# Altium integrated library Silicon Labs Isolation and Power.IntLib: 421 symbols (part 10 of 19)
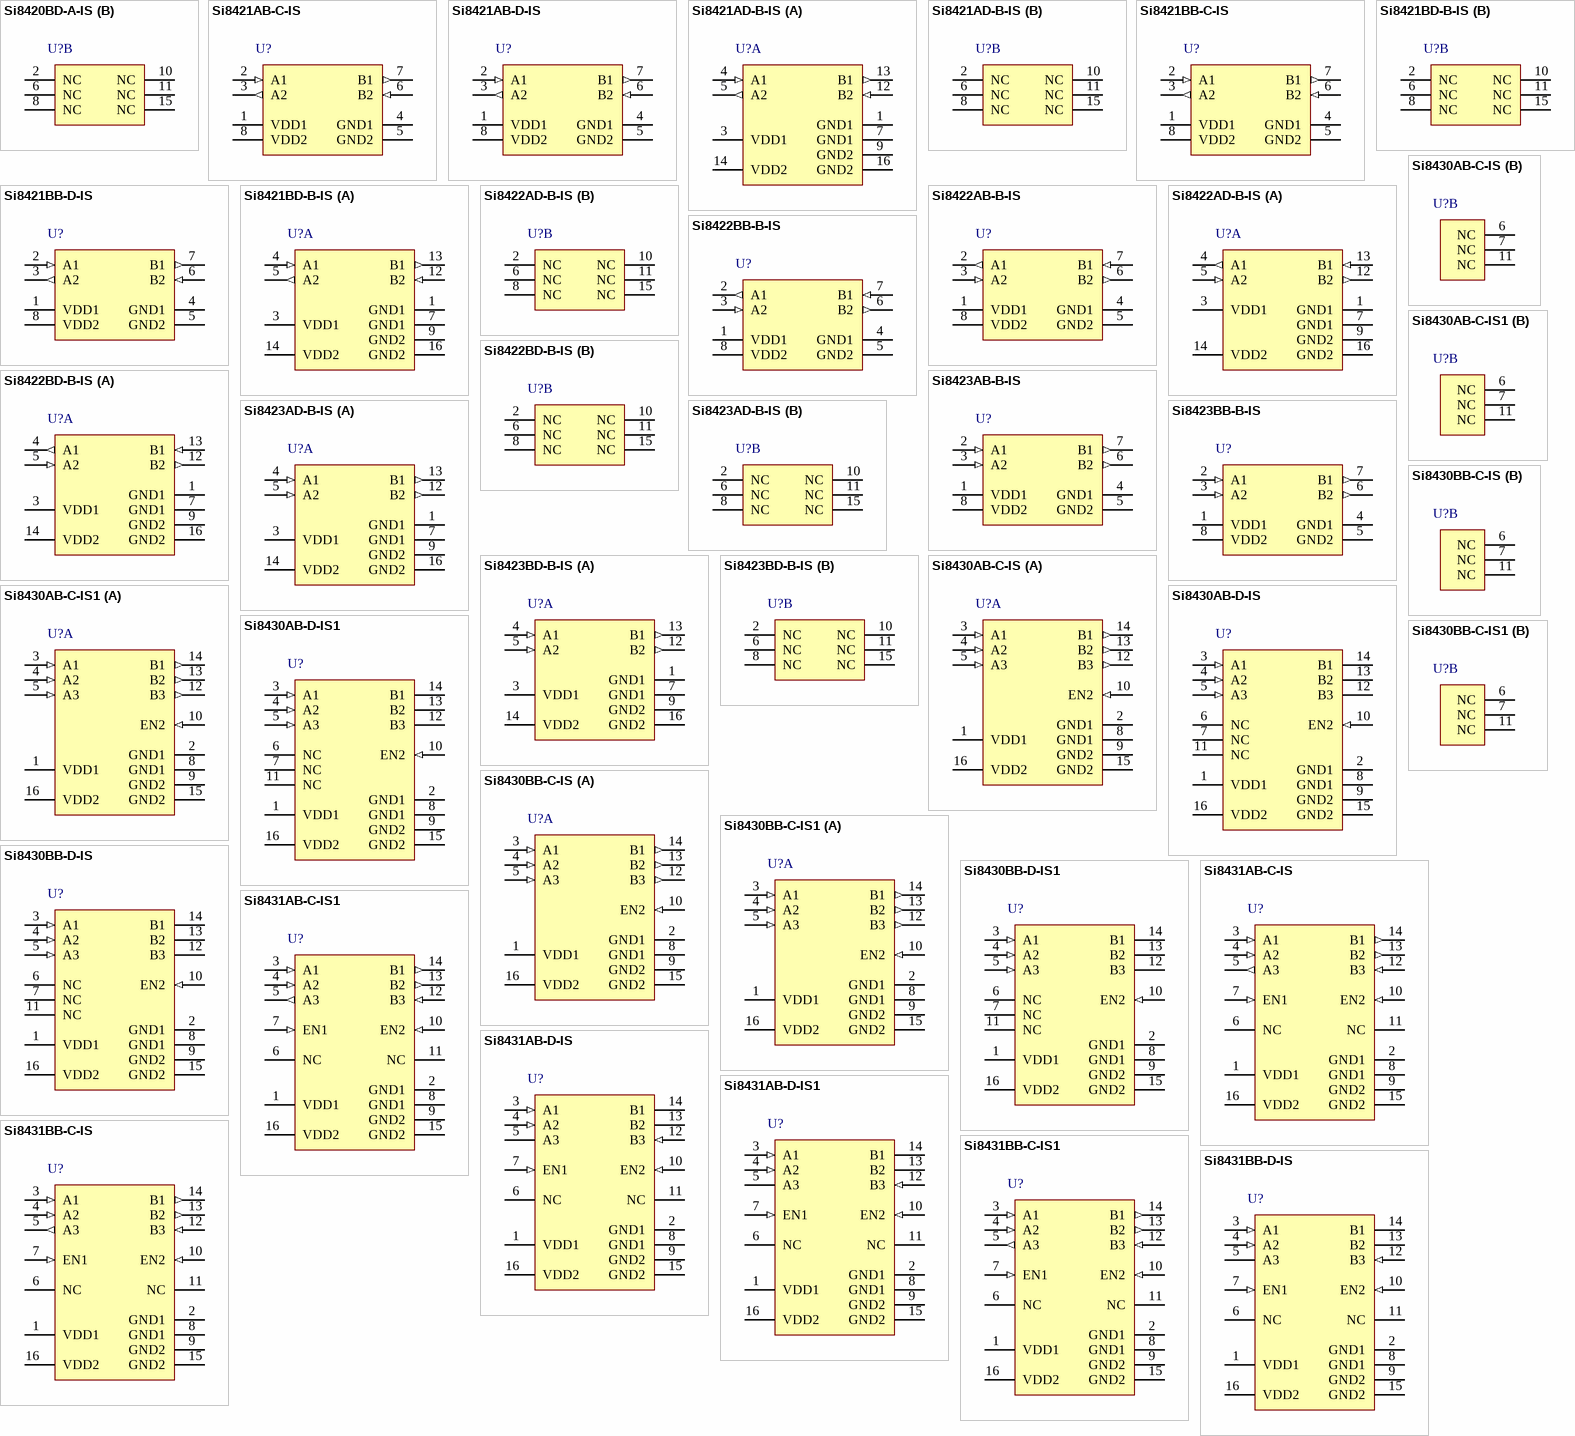
[diagram p23: symbols Si8420BD-A-IS to Si8431BB-D-IS]

## Si8431AB-D-IS1
designator U?
Low-Power Triple-Channel Digital Isolator, 1 Mbps, 2.5 kVRMS Isolation Rating, -40 to 125 degC, 16-pin SOIC; Manufacturer: Silicon Labs; PartNumber: Si8431AB-D-IS1; 10kV surge: FALSE; AEC-Q100: TRUE; Channel Type: Unidirectional; Isolation Rating (kV): 2.5; Maximum Data Rate (Mbps): 1; Maximum Propagation Delay (ns): 35; Sub-Family: Isolators; DatasheetVersion: Rev. 1.5; PackageReference: SOIC-16-NB; PackageDescription: 16-Pin Small-Outline Integrated Circuit, Body 9.9 x 3.9 mm, Pitch 1.27 mm; Supplier 1: Digi-Key; Supplier Part Number 1: SI8431AB-D-IS1-ND; Supplier 2: Mouser; Supplier Part Number 2: 634-SI8431AB-D-IS1; Enable Control: TRUE; Mounting Technology: Surface Mount; Code_JEDEC: MS-012; Code_IPC: J-STD-020; ComponentLink1Description: Manufacturer URL; ComponentLink1URL: http://www.silabs.com/; ComponentLink2Description: Datasheet; ComponentLink2URL: http://www.silabs.com/Support%20Documents/TechnicalDocs/Si843x.pdf; ComponentLink3Description: Package Specification; ComponentLink3URL: http://www.silabs.com/Support%20Documents/TechnicalDocs/si2401.pdf
footprint SLAB-SOIC-16-NB_N (SOIC, 16-Leads, Body 9.9x3.9mm, Pitch 1.27mm, IPC Medium Density)
footprint SLAB-SOIC-16-NB_L (SOIC, 16-Leads, Body 9.9x3.9mm, Pitch 1.27mm, IPC High Density)
footprint SLAB-SOIC-16-NB_M (SOIC, 16-Leads, Body 9.9x3.9mm, Pitch 1.27mm, IPC Low Density)
pins: 1 VDD1 (power) "Side 1 power supply.", 2 GND1 (power) "Side 1 ground.", 3 A1 (in) "Side 1 digital input.", 4 A2 (in) "Side 1 digital input.", 5 A3 (hiz) "Side 1 digital output.", 6 NC "No Connect.", 7 EN1 (in) "Side 1 active high enable", 8 GND1 (power) "Side 1 ground.", 9 GND2 (power) "Side 2 ground.", 10 EN2 (in) "Side 2 active high enable.", 11 NC "No Connect.", 12 B3 (in) "Side 2 digital input.", 13 B2 (hiz) "Side 2 digital output.", 14 B1 (hiz) "Side 2 digital output.", 15 GND2 (power) "Side 2 ground.", 16 VDD2 (power) "Side 2 power supply."

## Si8431BB-C-IS
designator U?
Low-Power Triple-Channel Digital Isolator, 150 Mbps, 2.5 kVRMS Isolation Rating, -40 to 125 degC, 16-pin SOIC; Manufacturer: Silicon Labs; PartNumber: Si8431BB-C-IS; 10kV surge: FALSE; AEC-Q100: TRUE; Channel Type: Unidirectional; Isolation Rating (kV): 2.5; Maximum Data Rate (Mbps): 150; Maximum Propagation Delay (ns): 9.5; Sub-Family: Isolators; DatasheetVersion: Rev. 1.5; PackageReference: SOIC-16-WB; PackageDescription: 16-Pin Wide Body Plastic Small Outline, Body 10.3 x 7.5 mm, Pitch 1.27 mm; Supplier 1: Mouser; Supplier Part Number 1: 634-SI8431BB-C-IS; Enable Control: TRUE; Mounting Technology: Surface Mount; Code_JEDEC: MS-013; ComponentLink1Description: Manufacturer URL; ComponentLink1URL: http://www.silabs.com/; ComponentLink2Description: Datasheet; ComponentLink2URL: http://www.silabs.com/Support%20Documents/TechnicalDocs/Si843x.pdf; ComponentLink3Description: Package Specification; ComponentLink3URL: https://www.silabs.com/Support%20Documents/TechnicalDocs/Si823x.pdf
footprint SLAB-SOIC-16-WB_N (SOIC, 16-Leads, Body 10.3x7.5mm, Pitch 1.27mm, IPC Medium Density)
footprint SLAB-SOIC-16-WB_L (SOIC, 16-Leads, Body 10.3x7.5mm, Pitch 1.27mm, IPC High Density)
footprint SLAB-SOIC-16-WB_M (SOIC, 16-Leads, Body 10.3x7.5mm, Pitch 1.27mm, IPC Low Density)
pins: 1 VDD1 (power) "Side 1 power supply.", 2 GND1 (power) "Side 1 ground.", 3 A1 (in) "Side 1 digital input.", 4 A2 (in) "Side 1 digital input.", 5 A3 (out) "Side 2 digital output.", 6 NC "No Connect.", 7 EN1 (in) "Side 1 active high enable", 8 GND1 (power) "Side 1 ground.", 9 GND2 (power) "Side 2 ground.", 10 EN2 (in) "Side 2 active high enable.", 11 NC "No Connect.", 12 B3 (in) "Side 1 digital input.", 13 B2 (out) "Side 2 digital output.", 14 B1 (out) "Side 2 digital output.", 15 GND2 (power) "Side 2 ground.", 16 VDD2 (power) "Side 2 power supply."

## Si8431BB-C-IS1
designator U?
Low-Power Triple-Channel Digital Isolator, 150 Mbps, 2.5 kVRMS Isolation Rating, -40 to 125 degC, 16-pin SOIC; Manufacturer: Silicon Labs; PartNumber: Si8431BB-C-IS1; 10kV surge: FALSE; AEC-Q100: TRUE; Channel Type: Unidirectional; Isolation Rating (kV): 2.5; Maximum Data Rate (Mbps): 150; Maximum Propagation Delay (ns): 9.5; Sub-Family: Isolators; DatasheetVersion: Rev. 1.5; PackageReference: SOIC-16-NB; PackageDescription: 16-Pin Small-Outline Integrated Circuit, Body 9.9 x 3.9 mm, Pitch 1.27 mm; Supplier 1: Digi-Key; Supplier Part Number 1: SI8431BB-C-IS1-ND; Enable Control: TRUE; Mounting Technology: Surface Mount; Code_JEDEC: MS-012; Code_IPC: J-STD-020; ComponentLink1Description: Manufacturer URL; ComponentLink1URL: http://www.silabs.com/; ComponentLink2Description: Datasheet; ComponentLink2URL: http://www.silabs.com/Support%20Documents/TechnicalDocs/Si843x.pdf; ComponentLink3Description: Package Specification; ComponentLink3URL: http://www.silabs.com/Support%20Documents/TechnicalDocs/si2401.pdf
footprint SLAB-SOIC-16-NB_N (SOIC, 16-Leads, Body 9.9x3.9mm, Pitch 1.27mm, IPC Medium Density)
footprint SLAB-SOIC-16-NB_L (SOIC, 16-Leads, Body 9.9x3.9mm, Pitch 1.27mm, IPC High Density)
footprint SLAB-SOIC-16-NB_M (SOIC, 16-Leads, Body 9.9x3.9mm, Pitch 1.27mm, IPC Low Density)
pins: 1 VDD1 (power) "Side 1 power supply.", 2 GND1 (power) "Side 1 ground.", 3 A1 (in) "Side 1 digital input.", 4 A2 (in) "Side 1 digital input.", 5 A3 (out) "Side 2 digital output.", 6 NC "No Connect.", 7 EN1 (in) "Side 1 active high enable", 8 GND1 (power) "Side 1 ground.", 9 GND2 (power) "Side 2 ground.", 10 EN2 (in) "Side 2 active high enable.", 11 NC "No Connect.", 12 B3 (in) "Side 1 digital input.", 13 B2 (out) "Side 2 digital output.", 14 B1 (out) "Side 2 digital output.", 15 GND2 (power) "Side 2 ground.", 16 VDD2 (power) "Side 2 power supply."

## Si8431BB-D-IS
designator U?
Low-Power Triple-Channel Digital Isolator, 150 Mbps, 2.5 kVRMS Isolation Rating, -40 to 125 degC, 16-pin SOIC; Manufacturer: Silicon Labs; PartNumber: Si8431BB-D-IS; 10kV surge: FALSE; AEC-Q100: TRUE; Channel Type: Unidirectional; Isolation Rating (kV): 2.5; Maximum Data Rate (Mbps): 150; Maximum Propagation Delay (ns): 9.5; Sub-Family: Isolators; DatasheetVersion: Rev. 1.5; PackageReference: SOIC-16-WB; PackageDescription: 16-Pin Wide Body Plastic Small Outline, Body 10.3 x 7.5 mm, Pitch 1.27 mm; Supplier 1: Digi-Key; Supplier Part Number 1: SI8431BB-D-IS-ND; Supplier 2: Mouser; Supplier Part Number 2: 634-SI8431BB-D-IS; Enable Control: TRUE; Mounting Technology: Surface Mount; Code_JEDEC: MS-013; ComponentLink1Description: Manufacturer URL; ComponentLink1URL: http://www.silabs.com/; ComponentLink2Description: Datasheet; ComponentLink2URL: http://www.silabs.com/Support%20Documents/TechnicalDocs/Si843x.pdf; ComponentLink3Description: Package Specification; ComponentLink3URL: https://www.silabs.com/Support%20Documents/TechnicalDocs/Si823x.pdf
footprint SLAB-SOIC-16-WB_N (SOIC, 16-Leads, Body 10.3x7.5mm, Pitch 1.27mm, IPC Medium Density)
footprint SLAB-SOIC-16-WB_L (SOIC, 16-Leads, Body 10.3x7.5mm, Pitch 1.27mm, IPC High Density)
footprint SLAB-SOIC-16-WB_M (SOIC, 16-Leads, Body 10.3x7.5mm, Pitch 1.27mm, IPC Low Density)
pins: 1 VDD1 (power) "Side 1 power supply.", 2 GND1 (power) "Side 1 ground.", 3 A1 (in) "Side 1 digital input.", 4 A2 (in) "Side 1 digital input.", 5 A3 (hiz) "Side 1 digital output.", 6 NC "No Connect.", 7 EN1 (in) "Side 1 active high enable", 8 GND1 (power) "Side 1 ground.", 9 GND2 (power) "Side 2 ground.", 10 EN2 (in) "Side 2 active high enable.", 11 NC "No Connect.", 12 B3 (in) "Side 2 digital input.", 13 B2 (hiz) "Side 2 digital output.", 14 B1 (hiz) "Side 2 digital output.", 15 GND2 (power) "Side 2 ground.", 16 VDD2 (power) "Side 2 power supply."

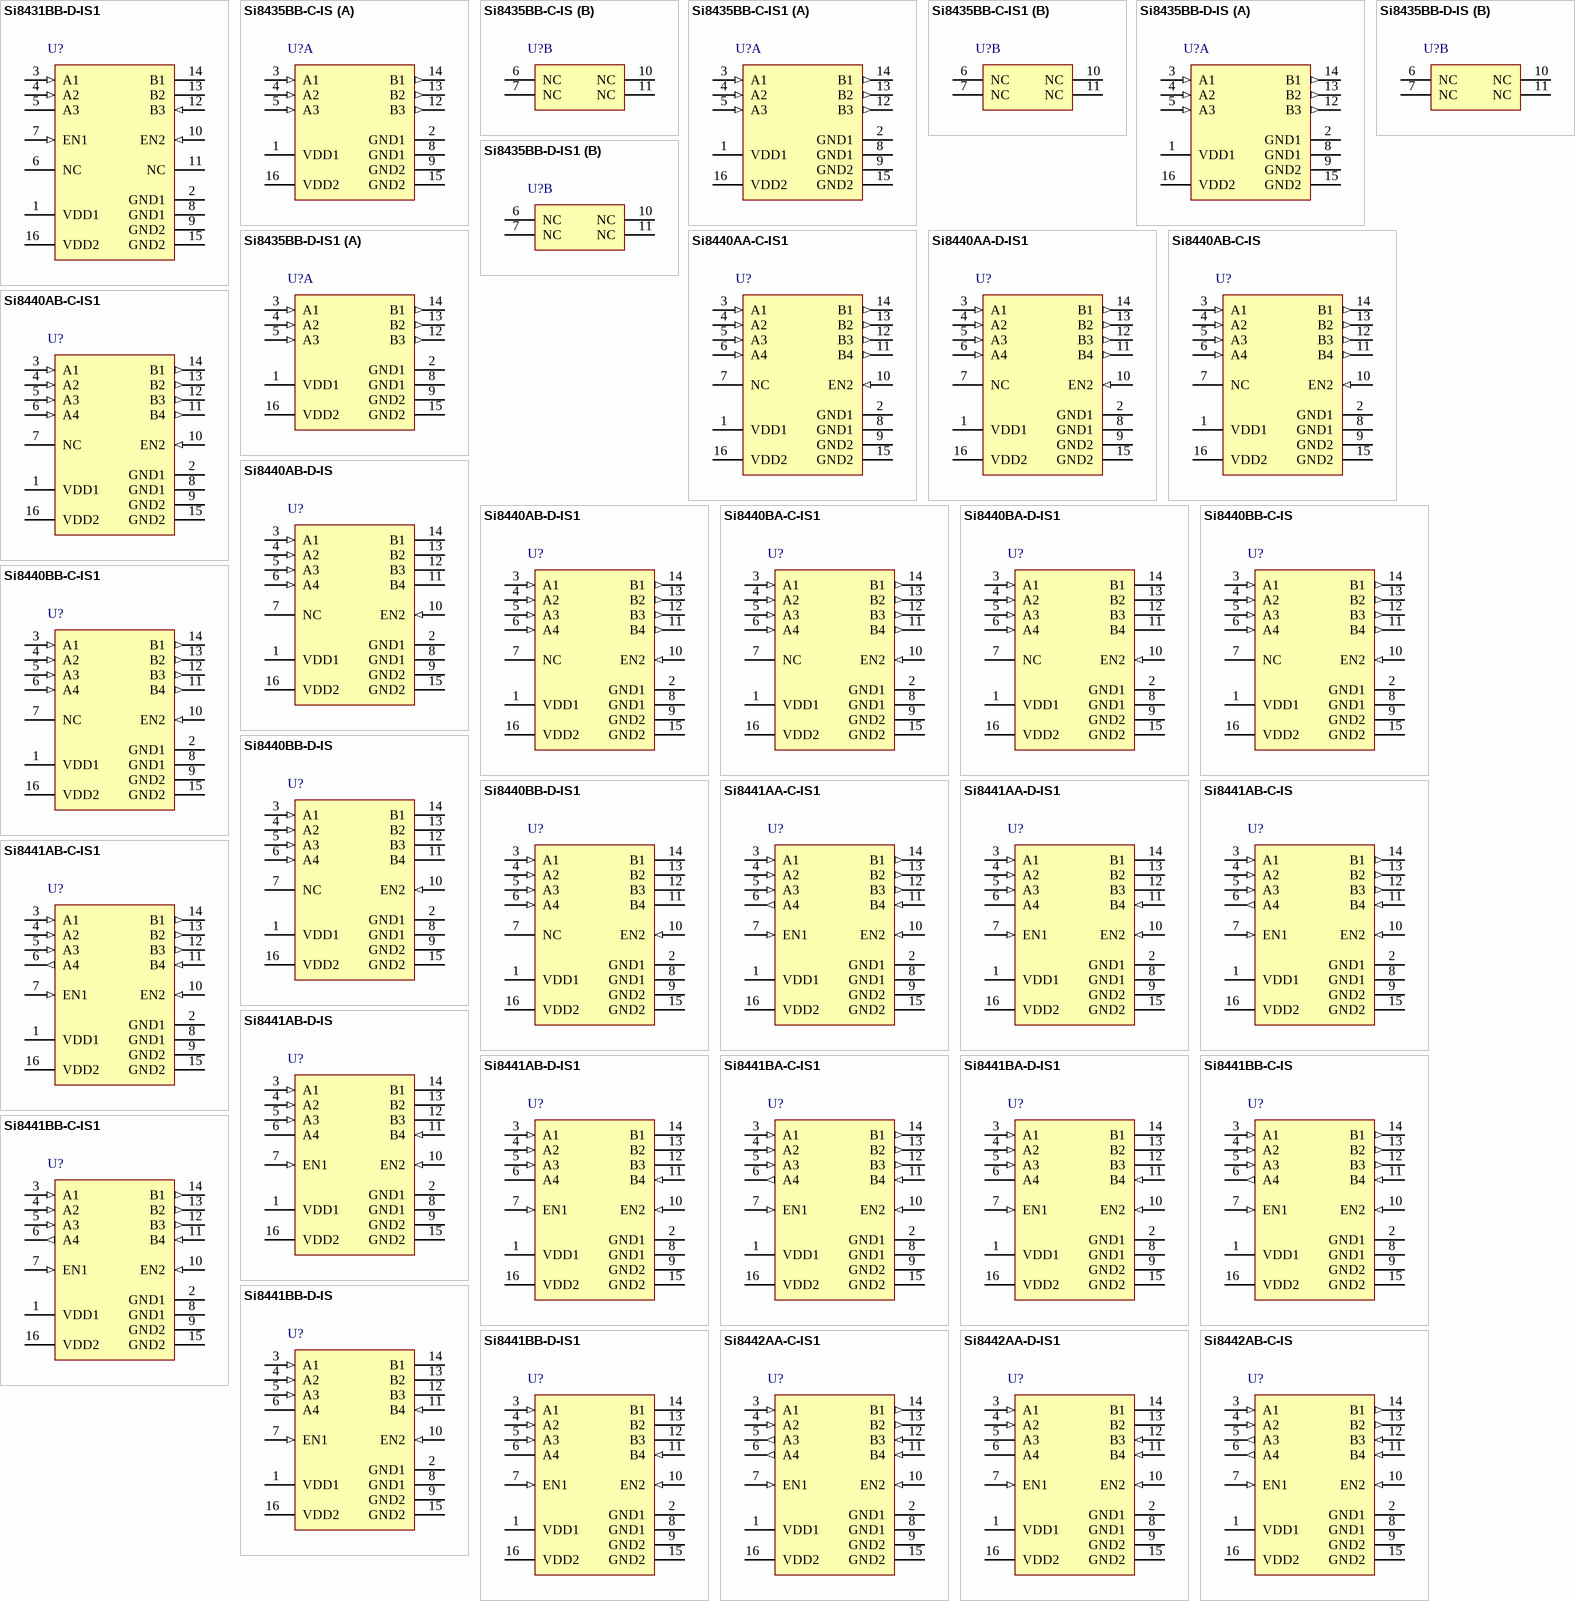
[diagram p7: symbols Si8431BB-D-IS1 to Si8442AB-C-IS]

## Si8431BB-D-IS1
designator U?
Low-Power Triple-Channel Digital Isolator, 150 Mbps, 2.5 kVRMS Isolation Rating, -40 to 125 degC, 16-pin SOIC; Manufacturer: Silicon Labs; PartNumber: Si8431BB-D-IS1; 10kV surge: FALSE; AEC-Q100: TRUE; Channel Type: Unidirectional; Isolation Rating (kV): 2.5; Maximum Data Rate (Mbps): 150; Maximum Propagation Delay (ns): 9.5; Sub-Family: Isolators; DatasheetVersion: Rev. 1.5; PackageReference: SOIC-16-NB; PackageDescription: 16-Pin Small-Outline Integrated Circuit, Body 9.9 x 3.9 mm, Pitch 1.27 mm; Supplier 1: Digi-Key; Supplier Part Number 1: SI8431BB-D-IS1-ND; Supplier 2: Mouser; Supplier Part Number 2: 634-SI8431BB-D-IS1; Enable Control: TRUE; Mounting Technology: Surface Mount; Code_JEDEC: MS-012; Code_IPC: J-STD-020; ComponentLink1Description: Manufacturer URL; ComponentLink1URL: http://www.silabs.com/; ComponentLink2Description: Datasheet; ComponentLink2URL: http://www.silabs.com/Support%20Documents/TechnicalDocs/Si843x.pdf; ComponentLink3Description: Package Specification; ComponentLink3URL: http://www.silabs.com/Support%20Documents/TechnicalDocs/si2401.pdf
footprint SLAB-SOIC-16-NB_N (SOIC, 16-Leads, Body 9.9x3.9mm, Pitch 1.27mm, IPC Medium Density)
footprint SLAB-SOIC-16-NB_L (SOIC, 16-Leads, Body 9.9x3.9mm, Pitch 1.27mm, IPC High Density)
footprint SLAB-SOIC-16-NB_M (SOIC, 16-Leads, Body 9.9x3.9mm, Pitch 1.27mm, IPC Low Density)
pins: 1 VDD1 (power) "Side 1 power supply.", 2 GND1 (power) "Side 1 ground.", 3 A1 (in) "Side 1 digital input.", 4 A2 (in) "Side 1 digital input.", 5 A3 (hiz) "Side 1 digital output.", 6 NC "No Connect.", 7 EN1 (in) "Side 1 active high enable", 8 GND1 (power) "Side 1 ground.", 9 GND2 (power) "Side 2 ground.", 10 EN2 (in) "Side 2 active high enable.", 11 NC "No Connect.", 12 B3 (in) "Side 2 digital input.", 13 B2 (hiz) "Side 2 digital output.", 14 B1 (hiz) "Side 2 digital output.", 15 GND2 (power) "Side 2 ground.", 16 VDD2 (power) "Side 2 power supply."

## Si8435BB-C-IS
designator U?
Low-Power Triple-Channel Digital Isolator, 150 Mbps, 2.5 kVRMS Isolation Rating, -40 to 125 degC, 16-pin SOIC; Manufacturer: Silicon Labs; PartNumber: Si8435BB-C-IS; Note: 0; 10kV surge: FALSE; Channel Type: Unidirectional; Isolation Rating (kV): 2.5; Maximum Data Rate (Mbps): 150; Maximum Propagation Delay (ns): 9.5; Sub-Family: Isolators; DatasheetVersion: Rev. 1.5; PackageReference: SOIC-16-WB; PackageDescription: 16-Pin Wide Body Plastic Small Outline, Body 10.3 x 7.5 mm, Pitch 1.27 mm; AEC-Q100: FALSE; Enable Control: FALSE; Mounting Technology: Surface Mount; Code_JEDEC: MS-013; ComponentLink1Description: Manufacturer URL; ComponentLink1URL: http://www.silabs.com/; ComponentLink2Description: Datasheet; ComponentLink2URL: http://www.silabs.com/Support%20Documents/TechnicalDocs/Si843x.pdf; ComponentLink3Description: Package Specification; ComponentLink3URL: https://www.silabs.com/Support%20Documents/TechnicalDocs/Si823x.pdf
footprint SLAB-SOIC-16-WB_N (SOIC, 16-Leads, Body 10.3x7.5mm, Pitch 1.27mm, IPC Medium Density)
footprint SLAB-SOIC-16-WB_L (SOIC, 16-Leads, Body 10.3x7.5mm, Pitch 1.27mm, IPC High Density)
footprint SLAB-SOIC-16-WB_M (SOIC, 16-Leads, Body 10.3x7.5mm, Pitch 1.27mm, IPC Low Density)
part A pins: 1 VDD1 (power) "Side 1 power supply.", 2 GND1 (power) "Side 1 ground.", 3 A1 (in) "Side 1 digital input.", 4 A2 (in) "Side 1 digital input.", 5 A3 (in) "Side 1 digital input.", 8 GND1 (power) "Side 1 ground.", 9 GND2 (power) "Side 2 ground.", 12 B3 (out) "Side 2 digital output.", 13 B2 (out) "Side 2 digital output.", 14 B1 (out) "Side 2 digital output.", 15 GND2 (power) "Side 2 ground.", 16 VDD2 (power) "Side 2 power supply."
part B pins: 6 NC "No Connect.", 7 NC "No Connect.", 10 NC "No Connect.", 11 NC "No Connect."

## Si8435BB-C-IS1
designator U?
Low-Power Triple-Channel Digital Isolator, 150 Mbps, 2.5 kVRMS Isolation Rating, -40 to 125 degC, 16-pin SOIC; Manufacturer: Silicon Labs; PartNumber: Si8435BB-C-IS1; 10kV surge: FALSE; Channel Type: Unidirectional; Isolation Rating (kV): 2.5; Maximum Data Rate (Mbps): 150; Maximum Propagation Delay (ns): 9.5; Sub-Family: Isolators; DatasheetVersion: Rev. 1.5; PackageReference: SOIC-16-NB; PackageDescription: 16-Pin Small-Outline Integrated Circuit, Body 9.9 x 3.9 mm, Pitch 1.27 mm; Supplier 1: Digi-Key; Supplier Part Number 1: SI8435BB-C-IS1-ND; AEC-Q100: FALSE; Enable Control: FALSE; Mounting Technology: Surface Mount; Code_JEDEC: MS-012; Code_IPC: J-STD-020; ComponentLink1Description: Manufacturer URL; ComponentLink1URL: http://www.silabs.com/; ComponentLink2Description: Datasheet; ComponentLink2URL: http://www.silabs.com/Support%20Documents/TechnicalDocs/Si843x.pdf; ComponentLink3Description: Package Specification; ComponentLink3URL: http://www.silabs.com/Support%20Documents/TechnicalDocs/si2401.pdf
footprint SLAB-SOIC-16-NB_N (SOIC, 16-Leads, Body 9.9x3.9mm, Pitch 1.27mm, IPC Medium Density)
footprint SLAB-SOIC-16-NB_L (SOIC, 16-Leads, Body 9.9x3.9mm, Pitch 1.27mm, IPC High Density)
footprint SLAB-SOIC-16-NB_M (SOIC, 16-Leads, Body 9.9x3.9mm, Pitch 1.27mm, IPC Low Density)
part A pins: 1 VDD1 (power) "Side 1 power supply.", 2 GND1 (power) "Side 1 ground.", 3 A1 (in) "Side 1 digital input.", 4 A2 (in) "Side 1 digital input.", 5 A3 (in) "Side 1 digital input.", 8 GND1 (power) "Side 1 ground.", 9 GND2 (power) "Side 2 ground.", 12 B3 (out) "Side 2 digital output.", 13 B2 (out) "Side 2 digital output.", 14 B1 (out) "Side 2 digital output.", 15 GND2 (power) "Side 2 ground.", 16 VDD2 (power) "Side 2 power supply."
part B pins: 6 NC "No Connect.", 7 NC "No Connect.", 10 NC "No Connect.", 11 NC "No Connect."

## Si8435BB-D-IS
designator U?
Low-Power Triple-Channel Digital Isolator, 150 Mbps, 2.5 kVRMS Isolation Rating, -40 to 125 degC, 16-pin SOIC; Manufacturer: Silicon Labs; PartNumber: Si8435BB-D-IS; 10kV surge: FALSE; AEC-Q100: TRUE; Channel Type: Unidirectional; Isolation Rating (kV): 2.5; Maximum Data Rate (Mbps): 150; Maximum Propagation Delay (ns): 9.5; Sub-Family: Isolators; DatasheetVersion: Rev. 1.5; PackageReference: SOIC-16-WB; PackageDescription: 16-Pin Wide Body Plastic Small Outline, Body 10.3 x 7.5 mm, Pitch 1.27 mm; Supplier 1: Digi-Key; Supplier Part Number 1: SI8435BB-D-IS-ND; Supplier 2: Mouser; Supplier Part Number 2: 634-SI8435BB-D-IS; Enable Control: FALSE; Mounting Technology: Surface Mount; Code_JEDEC: MS-013; ComponentLink1Description: Manufacturer URL; ComponentLink1URL: http://www.silabs.com/; ComponentLink2Description: Datasheet; ComponentLink2URL: http://www.silabs.com/Support%20Documents/TechnicalDocs/Si843x.pdf; ComponentLink3Description: Package Specification; ComponentLink3URL: https://www.silabs.com/Support%20Documents/TechnicalDocs/Si823x.pdf
footprint SLAB-SOIC-16-WB_N (SOIC, 16-Leads, Body 10.3x7.5mm, Pitch 1.27mm, IPC Medium Density)
footprint SLAB-SOIC-16-WB_L (SOIC, 16-Leads, Body 10.3x7.5mm, Pitch 1.27mm, IPC High Density)
footprint SLAB-SOIC-16-WB_M (SOIC, 16-Leads, Body 10.3x7.5mm, Pitch 1.27mm, IPC Low Density)
part A pins: 1 VDD1 (power) "Side 1 power supply.", 2 GND1 (power) "Side 1 ground.", 3 A1 (in) "Side 1 digital input.", 4 A2 (in) "Side 1 digital input.", 5 A3 (in) "Side 1 digital input.", 8 GND1 (power) "Side 1 ground.", 9 GND2 (power) "Side 2 ground.", 12 B3 (out) "Side 2 digital output.", 13 B2 (out) "Side 2 digital output.", 14 B1 (out) "Side 2 digital output.", 15 GND2 (power) "Side 2 ground.", 16 VDD2 (power) "Side 2 power supply."
part B pins: 6 NC "No Connect.", 7 NC "No Connect.", 10 NC "No Connect.", 11 NC "No Connect."

## Si8435BB-D-IS1
designator U?
Low-Power Triple-Channel Digital Isolator, 150 Mbps, 2.5 kVRMS Isolation Rating, -40 to 125 degC, 16-pin SOIC; Manufacturer: Silicon Labs; PartNumber: Si8435BB-D-IS1; 10kV surge: FALSE; Channel Type: Unidirectional; Isolation Rating (kV): 2.5; Maximum Data Rate (Mbps): 150; Maximum Propagation Delay (ns): 9.5; Sub-Family: Isolators; DatasheetVersion: Rev. 1.5; PackageReference: SOIC-16-NB; PackageDescription: 16-Pin Small-Outline Integrated Circuit, Body 9.9 x 3.9 mm, Pitch 1.27 mm; Supplier 1: Digi-Key; Supplier Part Number 1: SI8435BB-D-IS1-ND; Supplier 2: Mouser; Supplier Part Number 2: 634-SI8435BB-D-IS1; AEC-Q100: FALSE; Enable Control: FALSE; Mounting Technology: Surface Mount; Code_JEDEC: MS-012; Code_IPC: J-STD-020; ComponentLink1Description: Manufacturer URL; ComponentLink1URL: http://www.silabs.com/; ComponentLink2Description: Datasheet; ComponentLink2URL: http://www.silabs.com/Support%20Documents/TechnicalDocs/Si843x.pdf; ComponentLink3Description: Package Specification; ComponentLink3URL: http://www.silabs.com/Support%20Documents/TechnicalDocs/si2401.pdf
footprint SLAB-SOIC-16-NB_N (SOIC, 16-Leads, Body 9.9x3.9mm, Pitch 1.27mm, IPC Medium Density)
footprint SLAB-SOIC-16-NB_L (SOIC, 16-Leads, Body 9.9x3.9mm, Pitch 1.27mm, IPC High Density)
footprint SLAB-SOIC-16-NB_M (SOIC, 16-Leads, Body 9.9x3.9mm, Pitch 1.27mm, IPC Low Density)
part A pins: 1 VDD1 (power) "Side 1 power supply.", 2 GND1 (power) "Side 1 ground.", 3 A1 (in) "Side 1 digital input.", 4 A2 (in) "Side 1 digital input.", 5 A3 (in) "Side 1 digital input.", 8 GND1 (power) "Side 1 ground.", 9 GND2 (power) "Side 2 ground.", 12 B3 (out) "Side 2 digital output.", 13 B2 (out) "Side 2 digital output.", 14 B1 (out) "Side 2 digital output.", 15 GND2 (power) "Side 2 ground.", 16 VDD2 (power) "Side 2 power supply."
part B pins: 6 NC "No Connect.", 7 NC "No Connect.", 10 NC "No Connect.", 11 NC "No Connect."

## Si8440AA-C-IS1
designator U?
Low-Power Quad-Channel Digital Isolator, 1 Mbps, 1 kVRMS Isolation Rating, -40 to 125 degC, 16-pin SOIC; Manufacturer: Silicon Labs; PartNumber: Si8440AA-C-IS1; 10kV surge: FALSE; AEC-Q100: TRUE; Channel Type: Unidirectional; Isolation Rating (kV): 1; Maximum Propagation Delay (ns): 35; Sub-Family: Isolators; DatasheetVersion: Rev. 1.5; PackageReference: SOIC-16-NB; PackageDescription: 16-Pin Small-Outline Integrated Circuit, Body 9.9 x 3.9 mm, Pitch 1.27 mm; Supplier 1: Digi-Key; Supplier Part Number 1: SI8440AA-C-IS1-ND; Enable Control: TRUE; Maximum Data Rate (Mbps): 1; Mounting Technology: Surface Mount; Code_JEDEC: MS-012; Code_IPC: J-STD-020; ComponentLink1Description: Manufacturer URL; ComponentLink1URL: http://www.silabs.com/; ComponentLink2Description: Datasheet; ComponentLink2URL: http://www.silabs.com/Support%20Documents/TechnicalDocs/Si844x.pdf; ComponentLink3Description: Package Specification; ComponentLink3URL: http://www.silabs.com/Support%20Documents/TechnicalDocs/si2401.pdf
footprint SLAB-SOIC-16-NB_N (SOIC, 16-Leads, Body 9.9x3.9mm, Pitch 1.27mm, IPC Medium Density)
footprint SLAB-SOIC-16-NB_L (SOIC, 16-Leads, Body 9.9x3.9mm, Pitch 1.27mm, IPC High Density)
footprint SLAB-SOIC-16-NB_M (SOIC, 16-Leads, Body 9.9x3.9mm, Pitch 1.27mm, IPC Low Density)
pins: 1 VDD1 (power) "Side 1 power supply.", 2 GND1 (power) "Side 1 ground.", 3 A1 (in) "Side 1 digital input.", 4 A2 (in) "Side 1 digital input.", 5 A3 (in) "Side 1 digital input.", 6 A4 (in) "Side 1 digital input.", 7 NC "No Connect", 8 GND1 (power) "Side 1 ground.", 9 GND2 (power) "Side 2 ground.", 10 EN2 (in) "Side 2 active high enable.", 11 B4 (out) "Side 2 digital output.", 12 B3 (out) "Side 2 digital output.", 13 B2 (out) "Side 2 digital output.", 14 B1 (out) "Side 2 digital output.", 15 GND2 (power) "Side 2 ground.", 16 VDD2 (power) "Side 2 power supply."

## Si8440AA-D-IS1
designator U?
Low-Power Quad-Channel Digital Isolator, 1 Mbps, 1 kVRMS Isolation Rating, -40 to 125 degC, 16-pin SOIC; Manufacturer: Silicon Labs; PartNumber: Si8440AA-D-IS1; 10kV surge: FALSE; AEC-Q100: TRUE; Channel Type: Unidirectional; Isolation Rating (kV): 1; Maximum Propagation Delay (ns): 35; Sub-Family: Isolators; DatasheetVersion: Rev. 1.5; PackageReference: SOIC-16-NB; PackageDescription: 16-Pin Small-Outline Integrated Circuit, Body 9.9 x 3.9 mm, Pitch 1.27 mm; Supplier 1: Digi-Key; Supplier Part Number 1: SI8440AA-D-IS1-ND; Supplier 2: Mouser; Supplier Part Number 2: 634-SI8440AA-D-IS1; Enable Control: TRUE; Maximum Data Rate (Mbps): 1; Mounting Technology: Surface Mount; Code_JEDEC: MS-012; Code_IPC: J-STD-020; ComponentLink1Description: Manufacturer URL; ComponentLink1URL: http://www.silabs.com/; ComponentLink2Description: Datasheet; ComponentLink2URL: http://www.silabs.com/Support%20Documents/TechnicalDocs/Si844x.pdf; ComponentLink3Description: Package Specification; ComponentLink3URL: http://www.silabs.com/Support%20Documents/TechnicalDocs/si2401.pdf
footprint SLAB-SOIC-16-NB_N (SOIC, 16-Leads, Body 9.9x3.9mm, Pitch 1.27mm, IPC Medium Density)
footprint SLAB-SOIC-16-NB_L (SOIC, 16-Leads, Body 9.9x3.9mm, Pitch 1.27mm, IPC High Density)
footprint SLAB-SOIC-16-NB_M (SOIC, 16-Leads, Body 9.9x3.9mm, Pitch 1.27mm, IPC Low Density)
pins: 1 VDD1 (power) "Side 1 power supply.", 2 GND1 (power) "Side 1 ground.", 3 A1 (in) "Side 1 digital input.", 4 A2 (in) "Side 1 digital input.", 5 A3 (in) "Side 1 digital input.", 6 A4 (in) "Side 1 digital input.", 7 NC "No Connect", 8 GND1 (power) "Side 1 ground.", 9 GND2 (power) "Side 2 ground.", 10 EN2 (in) "Side 2 active high enable.", 11 B4 (out) "Side 2 digital output.", 12 B3 (out) "Side 2 digital output.", 13 B2 (out) "Side 2 digital output.", 14 B1 (out) "Side 2 digital output.", 15 GND2 (power) "Side 2 ground.", 16 VDD2 (power) "Side 2 power supply."

## Si8440AB-C-IS
designator U?
Low-Power Quad-Channel Digital Isolator, 1 Mbps, 2.5 kVRMS Isolation Rating, -40 to 125 degC, 16-pin SOIC; Manufacturer: Silicon Labs; PartNumber: Si8440AB-C-IS; Note: 0; 10kV surge: FALSE; AEC-Q100: TRUE; Channel Type: Unidirectional; Isolation Rating (kV): 2.5; Maximum Data Rate (Mbps): 1; Maximum Propagation Delay (ns): 35; Sub-Family: Isolators; DatasheetVersion: Rev. 1.5; PackageReference: SOIC-16-WB; PackageDescription: 16-Pin Wide Body Plastic Small Outline, Body 10.3 x 7.5 mm, Pitch 1.27 mm; Enable Control: TRUE; Mounting Technology: Surface Mount; Code_JEDEC: MS-013; ComponentLink1Description: Manufacturer URL; ComponentLink1URL: http://www.silabs.com/; ComponentLink2Description: Datasheet; ComponentLink2URL: http://www.silabs.com/Support%20Documents/TechnicalDocs/Si844x.pdf; ComponentLink3Description: Package Specification; ComponentLink3URL: https://www.silabs.com/Support%20Documents/TechnicalDocs/Si823x.pdf
footprint SLAB-SOIC-16-WB_N (SOIC, 16-Leads, Body 10.3x7.5mm, Pitch 1.27mm, IPC Medium Density)
footprint SLAB-SOIC-16-WB_L (SOIC, 16-Leads, Body 10.3x7.5mm, Pitch 1.27mm, IPC High Density)
footprint SLAB-SOIC-16-WB_M (SOIC, 16-Leads, Body 10.3x7.5mm, Pitch 1.27mm, IPC Low Density)
pins: 1 VDD1 (power) "Side 1 power supply.", 2 GND1 (power) "Side 1 ground.", 3 A1 (in) "Side 1 digital input.", 4 A2 (in) "Side 1 digital input.", 5 A3 (in) "Side 1 digital input.", 6 A4 (in) "Side 1 digital input.", 7 NC "No Connect", 8 GND1 (power) "Side 1 ground.", 9 GND2 (power) "Side 2 ground.", 10 EN2 (in) "Side 2 active high enable.", 11 B4 (out) "Side 2 digital output.", 12 B3 (out) "Side 2 digital output.", 13 B2 (out) "Side 2 digital output.", 14 B1 (out) "Side 2 digital output.", 15 GND2 (power) "Side 2 ground.", 16 VDD2 (power) "Side 2 power supply."

## Si8440AB-C-IS1
designator U?
Low-Power Quad-Channel Digital Isolator, 1 Mbps, 2.5 kVRMS Isolation Rating, -40 to 125 degC, 16-pin SOIC; Manufacturer: Silicon Labs; PartNumber: Si8440AB-C-IS1; 10kV surge: FALSE; AEC-Q100: TRUE; Channel Type: Unidirectional; Isolation Rating (kV): 2.5; Maximum Data Rate (Mbps): 1; Maximum Propagation Delay (ns): 35; Sub-Family: Isolators; DatasheetVersion: Rev. 1.5; PackageReference: SOIC-16-NB; PackageDescription: 16-Pin Small-Outline Integrated Circuit, Body 9.9 x 3.9 mm, Pitch 1.27 mm; Supplier 1: Digi-Key; Supplier Part Number 1: SI8440AB-C-IS1-ND; Enable Control: TRUE; Mounting Technology: Surface Mount; Code_JEDEC: MS-012; Code_IPC: J-STD-020; ComponentLink1Description: Manufacturer URL; ComponentLink1URL: http://www.silabs.com/; ComponentLink2Description: Datasheet; ComponentLink2URL: http://www.silabs.com/Support%20Documents/TechnicalDocs/Si844x.pdf; ComponentLink3Description: Package Specification; ComponentLink3URL: http://www.silabs.com/Support%20Documents/TechnicalDocs/si2401.pdf
footprint SLAB-SOIC-16-NB_N (SOIC, 16-Leads, Body 9.9x3.9mm, Pitch 1.27mm, IPC Medium Density)
footprint SLAB-SOIC-16-NB_L (SOIC, 16-Leads, Body 9.9x3.9mm, Pitch 1.27mm, IPC High Density)
footprint SLAB-SOIC-16-NB_M (SOIC, 16-Leads, Body 9.9x3.9mm, Pitch 1.27mm, IPC Low Density)
pins: 1 VDD1 (power) "Side 1 power supply.", 2 GND1 (power) "Side 1 ground.", 3 A1 (in) "Side 1 digital input.", 4 A2 (in) "Side 1 digital input.", 5 A3 (in) "Side 1 digital input.", 6 A4 (in) "Side 1 digital input.", 7 NC "No Connect", 8 GND1 (power) "Side 1 ground.", 9 GND2 (power) "Side 2 ground.", 10 EN2 (in) "Side 2 active high enable.", 11 B4 (out) "Side 2 digital output.", 12 B3 (out) "Side 2 digital output.", 13 B2 (out) "Side 2 digital output.", 14 B1 (out) "Side 2 digital output.", 15 GND2 (power) "Side 2 ground.", 16 VDD2 (power) "Side 2 power supply."

## Si8440AB-D-IS
designator U?
Low-Power Quad-Channel Digital Isolator, 1 Mbps, 2.5 kVRMS Isolation Rating, -40 to 125 degC, 16-pin SOIC; Manufacturer: Silicon Labs; PartNumber: Si8440AB-D-IS; 10kV surge: FALSE; AEC-Q100: TRUE; Channel Type: Unidirectional; Isolation Rating (kV): 2.5; Maximum Data Rate (Mbps): 1; Maximum Propagation Delay (ns): 35; Sub-Family: Isolators; DatasheetVersion: Rev. 1.5; PackageReference: SOIC-16-WB; PackageDescription: 16-Pin Wide Body Plastic Small Outline, Body 10.3 x 7.5 mm, Pitch 1.27 mm; Supplier 1: Digi-Key; Supplier Part Number 1: 336-1759-5-ND; Supplier 2: Mouser; Supplier Part Number 2: 634-SI8440AB-D-IS; Enable Control: TRUE; Mounting Technology: Surface Mount; Code_JEDEC: MS-013; ComponentLink1Description: Manufacturer URL; ComponentLink1URL: http://www.silabs.com/; ComponentLink2Description: Datasheet; ComponentLink2URL: http://www.silabs.com/Support%20Documents/TechnicalDocs/Si844x.pdf; ComponentLink3Description: Package Specification; ComponentLink3URL: https://www.silabs.com/Support%20Documents/TechnicalDocs/Si823x.pdf
footprint SLAB-SOIC-16-WB_N (SOIC, 16-Leads, Body 10.3x7.5mm, Pitch 1.27mm, IPC Medium Density)
footprint SLAB-SOIC-16-WB_L (SOIC, 16-Leads, Body 10.3x7.5mm, Pitch 1.27mm, IPC High Density)
footprint SLAB-SOIC-16-WB_M (SOIC, 16-Leads, Body 10.3x7.5mm, Pitch 1.27mm, IPC Low Density)
pins: 1 VDD1 (power) "Side 1 power supply.", 2 GND1 (power) "Side 1 ground.", 3 A1 (in) "Side 1 digital input.", 4 A2 (in) "Side 1 digital input.", 5 A3 (in) "Side 1 digital input.", 6 A4 (in) "Side 1 digital input.", 7 NC, 8 GND1 (power) "Side 1 ground.", 9 GND2 (power) "Side 2 ground.", 10 EN2 (in) "Side 2 active high enable.", 11 B4 (hiz) "Side 2 digital output.", 12 B3 (hiz) "Side 2 digital output.", 13 B2 (hiz) "Side 2 digital output.", 14 B1 (hiz) "Side 2 digital output.", 15 GND2 (power) "Side 2 ground.", 16 VDD2 (power) "Side 2 power supply."

## Si8440AB-D-IS1
designator U?
Low-Power Quad-Channel Digital Isolator, 1 Mbps, 2.5 kVRMS Isolation Rating, -40 to 125 degC, 16-pin SOIC; Manufacturer: Silicon Labs; PartNumber: Si8440AB-D-IS1; 10kV surge: FALSE; AEC-Q100: TRUE; Channel Type: Unidirectional; Isolation Rating (kV): 2.5; Maximum Data Rate (Mbps): 1; Maximum Propagation Delay (ns): 35; Sub-Family: Isolators; DatasheetVersion: Rev. 1.5; PackageReference: SOIC-16-NB; PackageDescription: 16-Pin Small-Outline Integrated Circuit, Body 9.9 x 3.9 mm, Pitch 1.27 mm; Supplier 1: Digi-Key; Supplier Part Number 1: SI8440AB-D-IS1-ND; Supplier 2: Mouser; Supplier Part Number 2: 634-SI8440AB-D-IS1; Enable Control: TRUE; Mounting Technology: Surface Mount; Code_JEDEC: MS-012; Code_IPC: J-STD-020; ComponentLink1Description: Manufacturer URL; ComponentLink1URL: http://www.silabs.com/; ComponentLink2Description: Datasheet; ComponentLink2URL: http://www.silabs.com/Support%20Documents/TechnicalDocs/Si844x.pdf; ComponentLink3Description: Package Specification; ComponentLink3URL: http://www.silabs.com/Support%20Documents/TechnicalDocs/si2401.pdf
footprint SLAB-SOIC-16-NB_N (SOIC, 16-Leads, Body 9.9x3.9mm, Pitch 1.27mm, IPC Medium Density)
footprint SLAB-SOIC-16-NB_L (SOIC, 16-Leads, Body 9.9x3.9mm, Pitch 1.27mm, IPC High Density)
footprint SLAB-SOIC-16-NB_M (SOIC, 16-Leads, Body 9.9x3.9mm, Pitch 1.27mm, IPC Low Density)
pins: 1 VDD1 (power) "Side 1 power supply.", 2 GND1 (power) "Side 1 ground.", 3 A1 (in) "Side 1 digital input.", 4 A2 (in) "Side 1 digital input.", 5 A3 (in) "Side 1 digital input.", 6 A4 (in) "Side 1 digital input.", 7 NC "No Connect", 8 GND1 (power) "Side 1 ground.", 9 GND2 (power) "Side 2 ground.", 10 EN2 (in) "Side 2 active high enable.", 11 B4 (out) "Side 2 digital output.", 12 B3 (out) "Side 2 digital output.", 13 B2 (out) "Side 2 digital output.", 14 B1 (out) "Side 2 digital output.", 15 GND2 (power) "Side 2 ground.", 16 VDD2 (power) "Side 2 power supply."

## Si8440BA-C-IS1
designator U?
Low-Power Quad-Channel Digital Isolator, 150 Mbps, 1 kVRMS Isolation Rating, -40 to 125 degC, 16-pin SOIC; Manufacturer: Silicon Labs; PartNumber: Si8440BA-C-IS1; 10kV surge: FALSE; AEC-Q100: TRUE; Channel Type: Unidirectional; Isolation Rating (kV): 1; Maximum Data Rate (Mbps): 150; Maximum Propagation Delay (ns): 9.5; Sub-Family: Isolators; DatasheetVersion: Rev. 1.5; PackageReference: SOIC-16-NB; PackageDescription: 16-Pin Small-Outline Integrated Circuit, Body 9.9 x 3.9 mm, Pitch 1.27 mm; Supplier 1: Digi-Key; Supplier Part Number 1: SI8440BA-C-IS1-ND; Enable Control: TRUE; Mounting Technology: Surface Mount; Code_JEDEC: MS-012; Code_IPC: J-STD-020; ComponentLink1Description: Manufacturer URL; ComponentLink1URL: http://www.silabs.com/; ComponentLink2Description: Datasheet; ComponentLink2URL: http://www.silabs.com/Support%20Documents/TechnicalDocs/Si844x.pdf; ComponentLink3Description: Package Specification; ComponentLink3URL: http://www.silabs.com/Support%20Documents/TechnicalDocs/si2401.pdf
footprint SLAB-SOIC-16-NB_N (SOIC, 16-Leads, Body 9.9x3.9mm, Pitch 1.27mm, IPC Medium Density)
footprint SLAB-SOIC-16-NB_L (SOIC, 16-Leads, Body 9.9x3.9mm, Pitch 1.27mm, IPC High Density)
footprint SLAB-SOIC-16-NB_M (SOIC, 16-Leads, Body 9.9x3.9mm, Pitch 1.27mm, IPC Low Density)
pins: 1 VDD1 (power) "Side 1 power supply.", 2 GND1 (power) "Side 1 ground.", 3 A1 (in) "Side 1 digital input.", 4 A2 (in) "Side 1 digital input.", 5 A3 (in) "Side 1 digital input.", 6 A4 (in) "Side 1 digital input.", 7 NC "No Connect", 8 GND1 (power) "Side 1 ground.", 9 GND2 (power) "Side 2 ground.", 10 EN2 (in) "Side 2 active high enable.", 11 B4 (out) "Side 2 digital output.", 12 B3 (out) "Side 2 digital output.", 13 B2 (out) "Side 2 digital output.", 14 B1 (out) "Side 2 digital output.", 15 GND2 (power) "Side 2 ground.", 16 VDD2 (power) "Side 2 power supply."

## Si8440BA-D-IS1
designator U?
Low-Power Quad-Channel Digital Isolator, 150 Mbps, 1 kVRMS Isolation Rating, -40 to 125 degC, 16-pin SOIC; Manufacturer: Silicon Labs; PartNumber: Si8440BA-D-IS1; 10kV surge: FALSE; AEC-Q100: TRUE; Channel Type: Unidirectional; Isolation Rating (kV): 1; Maximum Data Rate (Mbps): 150; Maximum Propagation Delay (ns): 9.5; Sub-Family: Isolators; DatasheetVersion: Rev. 1.5; PackageReference: SOIC-16-NB; PackageDescription: 16-Pin Small-Outline Integrated Circuit, Body 9.9 x 3.9 mm, Pitch 1.27 mm; Supplier 1: Digi-Key; Supplier Part Number 1: SI8440BA-D-IS1-ND; Supplier 2: Mouser; Supplier Part Number 2: 634-SI8440BA-D-IS1; Enable Control: TRUE; Mounting Technology: Surface Mount; Code_JEDEC: MS-012; Code_IPC: J-STD-020; ComponentLink1Description: Manufacturer URL; ComponentLink1URL: http://www.silabs.com/; ComponentLink2Description: Datasheet; ComponentLink2URL: http://www.silabs.com/Support%20Documents/TechnicalDocs/Si844x.pdf; ComponentLink3Description: Package Specification; ComponentLink3URL: http://www.silabs.com/Support%20Documents/TechnicalDocs/si2401.pdf
footprint SLAB-SOIC-16-NB_N (SOIC, 16-Leads, Body 9.9x3.9mm, Pitch 1.27mm, IPC Medium Density)
footprint SLAB-SOIC-16-NB_L (SOIC, 16-Leads, Body 9.9x3.9mm, Pitch 1.27mm, IPC High Density)
footprint SLAB-SOIC-16-NB_M (SOIC, 16-Leads, Body 9.9x3.9mm, Pitch 1.27mm, IPC Low Density)
pins: 1 VDD1 (power) "Side 1 power supply.", 2 GND1 (power) "Side 1 ground.", 3 A1 (in) "Side 1 digital input.", 4 A2 (in) "Side 1 digital input.", 5 A3 (in) "Side 1 digital input.", 6 A4 (in) "Side 1 digital input.", 7 NC, 8 GND1 (power) "Side 1 ground.", 9 GND2 (power) "Side 2 ground.", 10 EN2 (in) "Side 2 active high enable.", 11 B4 (hiz) "Side 2 digital output.", 12 B3 (hiz) "Side 2 digital output.", 13 B2 (hiz) "Side 2 digital output.", 14 B1 (hiz) "Side 2 digital output.", 15 GND2 (power) "Side 2 ground.", 16 VDD2 (power) "Side 2 power supply."

## Si8440BB-C-IS
designator U?
Low-Power Quad-Channel Digital Isolator, 150 Mbps, 2.5 kVRMS Isolation Rating, -40 to 125 degC, 16-pin SOIC; Manufacturer: Silicon Labs; PartNumber: Si8440BB-C-IS; 10kV surge: FALSE; AEC-Q100: TRUE; Channel Type: Unidirectional; Isolation Rating (kV): 2.5; Maximum Data Rate (Mbps): 150; Maximum Propagation Delay (ns): 9.5; Sub-Family: Isolators; DatasheetVersion: Rev. 1.5; PackageReference: SOIC-16-WB; PackageDescription: 16-Pin Wide Body Plastic Small Outline, Body 10.3 x 7.5 mm, Pitch 1.27 mm; Supplier 1: Mouser; Supplier Part Number 1: 634-SI8440BB-C-IS; Enable Control: TRUE; Mounting Technology: Surface Mount; Code_JEDEC: MS-013; ComponentLink1Description: Manufacturer URL; ComponentLink1URL: http://www.silabs.com/; ComponentLink2Description: Datasheet; ComponentLink2URL: http://www.silabs.com/Support%20Documents/TechnicalDocs/Si844x.pdf; ComponentLink3Description: Package Specification; ComponentLink3URL: https://www.silabs.com/Support%20Documents/TechnicalDocs/Si823x.pdf
footprint SLAB-SOIC-16-WB_N (SOIC, 16-Leads, Body 10.3x7.5mm, Pitch 1.27mm, IPC Medium Density)
footprint SLAB-SOIC-16-WB_L (SOIC, 16-Leads, Body 10.3x7.5mm, Pitch 1.27mm, IPC High Density)
footprint SLAB-SOIC-16-WB_M (SOIC, 16-Leads, Body 10.3x7.5mm, Pitch 1.27mm, IPC Low Density)
pins: 1 VDD1 (power) "Side 1 power supply.", 2 GND1 (power) "Side 1 ground.", 3 A1 (in) "Side 1 digital input.", 4 A2 (in) "Side 1 digital input.", 5 A3 (in) "Side 1 digital input.", 6 A4 (in) "Side 1 digital input.", 7 NC "No Connect", 8 GND1 (power) "Side 1 ground.", 9 GND2 (power) "Side 2 ground.", 10 EN2 (in) "Side 2 active high enable.", 11 B4 (out) "Side 2 digital output.", 12 B3 (out) "Side 2 digital output.", 13 B2 (out) "Side 2 digital output.", 14 B1 (out) "Side 2 digital output.", 15 GND2 (power) "Side 2 ground.", 16 VDD2 (power) "Side 2 power supply."

## Si8440BB-C-IS1
designator U?
Low-Power Quad-Channel Digital Isolator, 150 Mbps, 2.5 kVRMS Isolation Rating, -40 to 125 degC, 16-pin SOIC; Manufacturer: Silicon Labs; PartNumber: Si8440BB-C-IS1; 10kV surge: FALSE; AEC-Q100: TRUE; Channel Type: Unidirectional; Isolation Rating (kV): 2.5; Maximum Data Rate (Mbps): 150; Maximum Propagation Delay (ns): 9.5; Sub-Family: Isolators; DatasheetVersion: Rev. 1.5; PackageReference: SOIC-16-NB; PackageDescription: 16-Pin Small-Outline Integrated Circuit, Body 9.9 x 3.9 mm, Pitch 1.27 mm; Supplier 1: Digi-Key; Supplier Part Number 1: SI8440BB-C-IS1-ND; Enable Control: TRUE; Mounting Technology: Surface Mount; Code_JEDEC: MS-012; Code_IPC: J-STD-020; ComponentLink1Description: Manufacturer URL; ComponentLink1URL: http://www.silabs.com/; ComponentLink2Description: Datasheet; ComponentLink2URL: http://www.silabs.com/Support%20Documents/TechnicalDocs/Si844x.pdf; ComponentLink3Description: Package Specification; ComponentLink3URL: http://www.silabs.com/Support%20Documents/TechnicalDocs/si2401.pdf
footprint SLAB-SOIC-16-NB_N (SOIC, 16-Leads, Body 9.9x3.9mm, Pitch 1.27mm, IPC Medium Density)
footprint SLAB-SOIC-16-NB_L (SOIC, 16-Leads, Body 9.9x3.9mm, Pitch 1.27mm, IPC High Density)
footprint SLAB-SOIC-16-NB_M (SOIC, 16-Leads, Body 9.9x3.9mm, Pitch 1.27mm, IPC Low Density)
pins: 1 VDD1 (power) "Side 1 power supply.", 2 GND1 (power) "Side 1 ground.", 3 A1 (in) "Side 1 digital input.", 4 A2 (in) "Side 1 digital input.", 5 A3 (in) "Side 1 digital input.", 6 A4 (in) "Side 1 digital input.", 7 NC "No Connect", 8 GND1 (power) "Side 1 ground.", 9 GND2 (power) "Side 2 ground.", 10 EN2 (in) "Side 2 active high enable.", 11 B4 (out) "Side 2 digital output.", 12 B3 (out) "Side 2 digital output.", 13 B2 (out) "Side 2 digital output.", 14 B1 (out) "Side 2 digital output.", 15 GND2 (power) "Side 2 ground.", 16 VDD2 (power) "Side 2 power supply."

## Si8440BB-D-IS
designator U?
Low-Power Quad-Channel Digital Isolator, 150 Mbps, 2.5 kVRMS Isolation Rating, -40 to 125 degC, 16-pin SOIC; Manufacturer: Silicon Labs; PartNumber: Si8440BB-D-IS; 10kV surge: FALSE; AEC-Q100: TRUE; Channel Type: Unidirectional; Isolation Rating (kV): 2.5; Maximum Data Rate (Mbps): 150; Maximum Propagation Delay (ns): 9.5; Sub-Family: Isolators; DatasheetVersion: Rev. 1.5; PackageReference: SOIC-16-WB; PackageDescription: 16-Pin Wide Body Plastic Small Outline, Body 10.3 x 7.5 mm, Pitch 1.27 mm; Supplier 1: Digi-Key; Supplier Part Number 1: 336-1760-5-ND; Supplier 2: Mouser; Supplier Part Number 2: 634-SI8440BB-D-IS; Enable Control: TRUE; Mounting Technology: Surface Mount; Code_JEDEC: MS-013; ComponentLink1Description: Manufacturer URL; ComponentLink1URL: http://www.silabs.com/; ComponentLink2Description: Datasheet; ComponentLink2URL: http://www.silabs.com/Support%20Documents/TechnicalDocs/Si844x.pdf; ComponentLink3Description: Package Specification; ComponentLink3URL: https://www.silabs.com/Support%20Documents/TechnicalDocs/Si823x.pdf
footprint SLAB-SOIC-16-WB_N (SOIC, 16-Leads, Body 10.3x7.5mm, Pitch 1.27mm, IPC Medium Density)
footprint SLAB-SOIC-16-WB_L (SOIC, 16-Leads, Body 10.3x7.5mm, Pitch 1.27mm, IPC High Density)
footprint SLAB-SOIC-16-WB_M (SOIC, 16-Leads, Body 10.3x7.5mm, Pitch 1.27mm, IPC Low Density)
pins: 1 VDD1 (power) "Side 1 power supply.", 2 GND1 (power) "Side 1 ground.", 3 A1 (in) "Side 1 digital input.", 4 A2 (in) "Side 1 digital input.", 5 A3 (in) "Side 1 digital input.", 6 A4 (in) "Side 1 digital input.", 7 NC, 8 GND1 (power) "Side 1 ground.", 9 GND2 (power) "Side 2 ground.", 10 EN2 (in) "Side 2 active high enable.", 11 B4 (hiz) "Side 2 digital output.", 12 B3 (hiz) "Side 2 digital output.", 13 B2 (hiz) "Side 2 digital output.", 14 B1 (hiz) "Side 2 digital output.", 15 GND2 (power) "Side 2 ground.", 16 VDD2 (power) "Side 2 power supply."

## Si8440BB-D-IS1
designator U?
Low-Power Quad-Channel Digital Isolator, 150 Mbps, 2.5 kVRMS Isolation Rating, -40 to 125 degC, 16-pin SOIC; Manufacturer: Silicon Labs; PartNumber: Si8440BB-D-IS1; 10kV surge: FALSE; AEC-Q100: TRUE; Channel Type: Unidirectional; Isolation Rating (kV): 2.5; Maximum Data Rate (Mbps): 150; Maximum Propagation Delay (ns): 9.5; Sub-Family: Isolators; DatasheetVersion: Rev. 1.5; PackageReference: SOIC-16-NB; PackageDescription: 16-Pin Small-Outline Integrated Circuit, Body 9.9 x 3.9 mm, Pitch 1.27 mm; Supplier 1: Digi-Key; Supplier Part Number 1: SI8440BB-D-IS1-ND; Supplier 2: Mouser; Supplier Part Number 2: 634-SI8440BB-D-IS1; Enable Control: TRUE; Mounting Technology: Surface Mount; Code_JEDEC: MS-012; Code_IPC: J-STD-020; ComponentLink1Description: Manufacturer URL; ComponentLink1URL: http://www.silabs.com/; ComponentLink2Description: Datasheet; ComponentLink2URL: http://www.silabs.com/Support%20Documents/TechnicalDocs/Si844x.pdf; ComponentLink3Description: Package Specification; ComponentLink3URL: http://www.silabs.com/Support%20Documents/TechnicalDocs/si2401.pdf
footprint SLAB-SOIC-16-NB_N (SOIC, 16-Leads, Body 9.9x3.9mm, Pitch 1.27mm, IPC Medium Density)
footprint SLAB-SOIC-16-NB_L (SOIC, 16-Leads, Body 9.9x3.9mm, Pitch 1.27mm, IPC High Density)
footprint SLAB-SOIC-16-NB_M (SOIC, 16-Leads, Body 9.9x3.9mm, Pitch 1.27mm, IPC Low Density)
pins: 1 VDD1 (power) "Side 1 power supply.", 2 GND1 (power) "Side 1 ground.", 3 A1 (in) "Side 1 digital input.", 4 A2 (in) "Side 1 digital input.", 5 A3 (in) "Side 1 digital input.", 6 A4 (in) "Side 1 digital input.", 7 NC, 8 GND1 (power) "Side 1 ground.", 9 GND2 (power) "Side 2 ground.", 10 EN2 (in) "Side 2 active high enable.", 11 B4 (hiz) "Side 2 digital output.", 12 B3 (hiz) "Side 2 digital output.", 13 B2 (hiz) "Side 2 digital output.", 14 B1 (hiz) "Side 2 digital output.", 15 GND2 (power) "Side 2 ground.", 16 VDD2 (power) "Side 2 power supply."

## Si8441AA-C-IS1
designator U?
Low-Power Quad-Channel Digital Isolator, 1 Mbps, 1 kVRMS Isolation Rating, -40 to 125 degC, 16-pin SOIC; Manufacturer: Silicon Labs; PartNumber: Si8441AA-C-IS1; 10kV surge: FALSE; Channel Type: Unidirectional; Enable Control: TRUE; Isolation Rating (kV): 1; Maximum Propagation Delay (ns): 35; Sub-Family: Isolators; DatasheetVersion: Rev. 1.5; PackageReference: SOIC-16-NB; PackageDescription: 16-Pin Small-Outline Integrated Circuit, Body 9.9 x 3.9 mm, Pitch 1.27 mm; Supplier 1: Digi-Key; Supplier Part Number 1: SI8441AA-C-IS1-ND; AEC-Q100: FALSE; Maximum Data Rate (Mbps): 1; Mounting Technology: Surface Mount; Code_JEDEC: MS-012; Code_IPC: J-STD-020; ComponentLink1Description: Manufacturer URL; ComponentLink1URL: http://www.silabs.com/; ComponentLink2Description: Datasheet; ComponentLink2URL: http://www.silabs.com/Support%20Documents/TechnicalDocs/Si844x.pdf; ComponentLink3Description: Package Specification; ComponentLink3URL: http://www.silabs.com/Support%20Documents/TechnicalDocs/si2401.pdf
footprint SLAB-SOIC-16-NB_N (SOIC, 16-Leads, Body 9.9x3.9mm, Pitch 1.27mm, IPC Medium Density)
footprint SLAB-SOIC-16-NB_L (SOIC, 16-Leads, Body 9.9x3.9mm, Pitch 1.27mm, IPC High Density)
footprint SLAB-SOIC-16-NB_M (SOIC, 16-Leads, Body 9.9x3.9mm, Pitch 1.27mm, IPC Low Density)
pins: 1 VDD1 (power) "Side 1 power supply.", 2 GND1 (power) "Side 1 ground.", 3 A1 (in) "Side 1 digital input.", 4 A2 (in) "Side 1 digital input.", 5 A3 (in) "Side 1 digital input", 6 A4 (out) "Side 1 digital output.", 7 EN1 (in) "Side 1 active high enable", 8 GND1 (power) "Side 1 ground.", 9 GND2 (power) "Side 2 ground.", 10 EN2 (in) "Side 2 active high enable.", 11 B4 (in) "Side 2 digital input.", 12 B3 (out) "Side 2 digital output.", 13 B2 (out) "Side 2 digital output.", 14 B1 (out) "Side 2 digital output.", 15 GND2 (power) "Side 2 ground.", 16 VDD2 (power) "Side 2 power supply."

## Si8441AA-D-IS1
designator U?
Low-Power Quad-Channel Digital Isolator, 1 Mbps, 1 kVRMS Isolation Rating, -40 to 125 degC, 16-pin SOIC; Manufacturer: Silicon Labs; PartNumber: Si8441AA-D-IS1; 10kV surge: FALSE; Channel Type: Unidirectional; Enable Control: TRUE; Isolation Rating (kV): 1; Maximum Propagation Delay (ns): 35; Sub-Family: Isolators; DatasheetVersion: Rev. 1.5; PackageReference: SOIC-16-NB; PackageDescription: 16-Pin Small-Outline Integrated Circuit, Body 9.9 x 3.9 mm, Pitch 1.27 mm; Supplier 1: Digi-Key; Supplier Part Number 1: SI8441AA-D-IS1-ND; Supplier 2: Mouser; Supplier Part Number 2: 634-SI8441AA-D-IS1; AEC-Q100: FALSE; Maximum Data Rate (Mbps): 1; Mounting Technology: Surface Mount; Code_JEDEC: MS-012; Code_IPC: J-STD-020; ComponentLink1Description: Manufacturer URL; ComponentLink1URL: http://www.silabs.com/; ComponentLink2Description: Datasheet; ComponentLink2URL: http://www.silabs.com/Support%20Documents/TechnicalDocs/Si844x.pdf; ComponentLink3Description: Package Specification; ComponentLink3URL: http://www.silabs.com/Support%20Documents/TechnicalDocs/si2401.pdf
footprint SLAB-SOIC-16-NB_N (SOIC, 16-Leads, Body 9.9x3.9mm, Pitch 1.27mm, IPC Medium Density)
footprint SLAB-SOIC-16-NB_L (SOIC, 16-Leads, Body 9.9x3.9mm, Pitch 1.27mm, IPC High Density)
footprint SLAB-SOIC-16-NB_M (SOIC, 16-Leads, Body 9.9x3.9mm, Pitch 1.27mm, IPC Low Density)
pins: 1 VDD1 (power) "Side 1 power supply.", 2 GND1 (power) "Side 1 ground.", 3 A1 (in) "Side 1 digital input.", 4 A2 (in) "Side 1 digital input.", 5 A3 (in) "Side 1 digital input.", 6 A4 (hiz) "Side 1 digital output.", 7 EN1 (in) "Side 1 active high enable.", 8 GND1 (power) "Side 1 ground.", 9 GND2 (power) "Side 2 ground.", 10 EN2 (in) "Side 2 active high enable.", 11 B4 (in) "Side 2 digital input.", 12 B3 (hiz) "Side 2 digital output.", 13 B2 (hiz) "Side 2 digital output.", 14 B1 (hiz) "Side 2 digital output.", 15 GND2 (power) "Side 2 ground.", 16 VDD2 (power) "Side 2 power supply."

## Si8441AB-C-IS
designator U?
Low-Power Quad-Channel Digital Isolator, 1 Mbps, 2.5 kVRMS Isolation Rating, -40 to 125 degC, 16-pin SOIC; Manufacturer: Silicon Labs; PartNumber: Si8441AB-C-IS; Note: 0; 10kV surge: FALSE; Channel Type: Unidirectional; Enable Control: TRUE; Isolation Rating (kV): 2.5; Maximum Data Rate (Mbps): 1; Maximum Propagation Delay (ns): 35; Sub-Family: Isolators; DatasheetVersion: Rev. 1.5; PackageReference: SOIC-16-WB; PackageDescription: 16-Pin Wide Body Plastic Small Outline, Body 10.3 x 7.5 mm, Pitch 1.27 mm; AEC-Q100: FALSE; Mounting Technology: Surface Mount; Code_JEDEC: MS-013; ComponentLink1Description: Manufacturer URL; ComponentLink1URL: http://www.silabs.com/; ComponentLink2Description: Datasheet; ComponentLink2URL: http://www.silabs.com/Support%20Documents/TechnicalDocs/Si844x.pdf; ComponentLink3Description: Package Specification; ComponentLink3URL: https://www.silabs.com/Support%20Documents/TechnicalDocs/Si823x.pdf
footprint SLAB-SOIC-16-WB_N (SOIC, 16-Leads, Body 10.3x7.5mm, Pitch 1.27mm, IPC Medium Density)
footprint SLAB-SOIC-16-WB_L (SOIC, 16-Leads, Body 10.3x7.5mm, Pitch 1.27mm, IPC High Density)
footprint SLAB-SOIC-16-WB_M (SOIC, 16-Leads, Body 10.3x7.5mm, Pitch 1.27mm, IPC Low Density)
pins: 1 VDD1 (power) "Side 1 power supply.", 2 GND1 (power) "Side 1 ground.", 3 A1 (in) "Side 1 digital input.", 4 A2 (in) "Side 1 digital input.", 5 A3 (in) "Side 1 digital input", 6 A4 (out) "Side 1 digital output.", 7 EN1 (in) "Side 1 active high enable", 8 GND1 (power) "Side 1 ground.", 9 GND2 (power) "Side 2 ground.", 10 EN2 (in) "Side 2 active high enable.", 11 B4 (in) "Side 2 digital input.", 12 B3 (out) "Side 2 digital output.", 13 B2 (out) "Side 2 digital output.", 14 B1 (out) "Side 2 digital output.", 15 GND2 (power) "Side 2 ground.", 16 VDD2 (power) "Side 2 power supply."

## Si8441AB-C-IS1
designator U?
Low-Power Quad-Channel Digital Isolator, 1 Mbps, 2.5 kVRMS Isolation Rating, -40 to 125 degC, 16-pin SOIC; Manufacturer: Silicon Labs; PartNumber: Si8441AB-C-IS1; 10kV surge: FALSE; Channel Type: Unidirectional; Enable Control: TRUE; Isolation Rating (kV): 2.5; Maximum Data Rate (Mbps): 1; Maximum Propagation Delay (ns): 35; Sub-Family: Isolators; DatasheetVersion: Rev. 1.5; PackageReference: SOIC-16-NB; PackageDescription: 16-Pin Small-Outline Integrated Circuit, Body 9.9 x 3.9 mm, Pitch 1.27 mm; Supplier 1: Digi-Key; Supplier Part Number 1: SI8441AB-C-IS1-ND; AEC-Q100: FALSE; Mounting Technology: Surface Mount; Code_JEDEC: MS-012; Code_IPC: J-STD-020; ComponentLink1Description: Manufacturer URL; ComponentLink1URL: http://www.silabs.com/; ComponentLink2Description: Datasheet; ComponentLink2URL: http://www.silabs.com/Support%20Documents/TechnicalDocs/Si844x.pdf; ComponentLink3Description: Package Specification; ComponentLink3URL: http://www.silabs.com/Support%20Documents/TechnicalDocs/si2401.pdf
footprint SLAB-SOIC-16-NB_N (SOIC, 16-Leads, Body 9.9x3.9mm, Pitch 1.27mm, IPC Medium Density)
footprint SLAB-SOIC-16-NB_L (SOIC, 16-Leads, Body 9.9x3.9mm, Pitch 1.27mm, IPC High Density)
footprint SLAB-SOIC-16-NB_M (SOIC, 16-Leads, Body 9.9x3.9mm, Pitch 1.27mm, IPC Low Density)
pins: 1 VDD1 (power) "Side 1 power supply.", 2 GND1 (power) "Side 1 ground.", 3 A1 (in) "Side 1 digital input.", 4 A2 (in) "Side 1 digital input.", 5 A3 (in) "Side 1 digital input", 6 A4 (out) "Side 1 digital output.", 7 EN1 (in) "Side 1 active high enable", 8 GND1 (power) "Side 1 ground.", 9 GND2 (power) "Side 2 ground.", 10 EN2 (in) "Side 2 active high enable.", 11 B4 (in) "Side 2 digital input.", 12 B3 (out) "Side 2 digital output.", 13 B2 (out) "Side 2 digital output.", 14 B1 (out) "Side 2 digital output.", 15 GND2 (power) "Side 2 ground.", 16 VDD2 (power) "Side 2 power supply."

## Si8441AB-D-IS
designator U?
Low-Power Quad-Channel Digital Isolator, 1 Mbps, 2.5 kVRMS Isolation Rating, -40 to 125 degC, 16-pin SOIC; Manufacturer: Silicon Labs; PartNumber: Si8441AB-D-IS; 10kV surge: FALSE; Channel Type: Unidirectional; Enable Control: TRUE; Isolation Rating (kV): 2.5; Maximum Data Rate (Mbps): 1; Maximum Propagation Delay (ns): 35; Sub-Family: Isolators; DatasheetVersion: Rev. 1.5; PackageReference: SOIC-16-WB; PackageDescription: 16-Pin Wide Body Plastic Small Outline, Body 10.3 x 7.5 mm, Pitch 1.27 mm; Supplier 1: Digi-Key; Supplier Part Number 1: 336-1761-5-ND; Supplier 2: Mouser; Supplier Part Number 2: 634-SI8441AB-D-IS; AEC-Q100: FALSE; Mounting Technology: Surface Mount; Code_JEDEC: MS-013; ComponentLink1Description: Manufacturer URL; ComponentLink1URL: http://www.silabs.com/; ComponentLink2Description: Datasheet; ComponentLink2URL: http://www.silabs.com/Support%20Documents/TechnicalDocs/Si844x.pdf; ComponentLink3Description: Package Specification; ComponentLink3URL: https://www.silabs.com/Support%20Documents/TechnicalDocs/Si823x.pdf
footprint SLAB-SOIC-16-WB_N (SOIC, 16-Leads, Body 10.3x7.5mm, Pitch 1.27mm, IPC Medium Density)
footprint SLAB-SOIC-16-WB_L (SOIC, 16-Leads, Body 10.3x7.5mm, Pitch 1.27mm, IPC High Density)
footprint SLAB-SOIC-16-WB_M (SOIC, 16-Leads, Body 10.3x7.5mm, Pitch 1.27mm, IPC Low Density)
pins: 1 VDD1 (power) "Side 1 power supply.", 2 GND1 (power) "Side 1 ground.", 3 A1 (in) "Side 1 digital input.", 4 A2 (in) "Side 1 digital input.", 5 A3 (in) "Side 1 digital input.", 6 A4 (hiz) "Side 1 digital output.", 7 EN1 (in) "Side 1 active high enable.", 8 GND1 (power) "Side 1 ground.", 9 GND2 (power) "Side 2 ground.", 10 EN2 (in) "Side 2 active high enable.", 11 B4 (in) "Side 2 digital input.", 12 B3 (hiz) "Side 2 digital output.", 13 B2 (hiz) "Side 2 digital output.", 14 B1 (hiz) "Side 2 digital output.", 15 GND2 (power) "Side 2 ground.", 16 VDD2 (power) "Side 2 power supply."